# Altium footprint library WL-SWTP.PcbLib: 3 footprints
Each footprint in its own frame and in the unit in brackets; x right, y up, seen from the top. Pads: shape width x height; smd on the part's side, far side on the other; paste and mask are expansions set on the pad; w line width, h text height; cw(c..) or ccw(c..) is an arc to the next point about the centre after c.
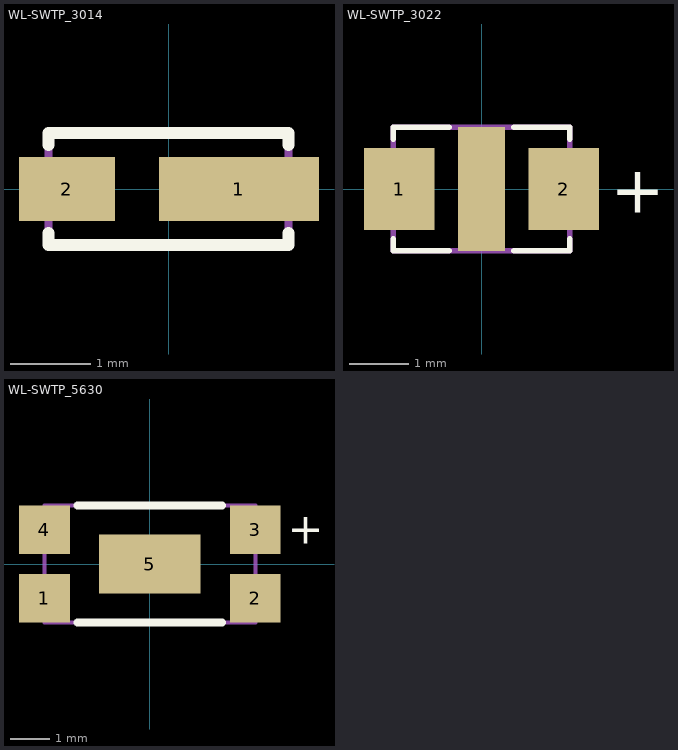
[diagram p0: the footprints below, top view; thin cyan lines are the x and y axes]

## WL-SWTP_3014 [mm] "SMD White Top view PLCC, body 3x1.4"
height 0.8
pads (2):
  rect 2x0.8 smd: 1(0.88,0)
  rect 1.2x0.8 smd: 2(-1.27,0)
Top Overlay:
  lines w0.15: -1.5,-0.55 -1.5,-0.7 1.5,-0.7 1.5,-0.55 ; -1.5,0.55 -1.5,0.7 1.5,0.7 1.5,0.55
Mechanical 13:
  lines w0.1: -1.5,-0.7 1.5,-0.7 1.5,0.7 -1.5,0.7 -1.5,-0.7
3D body "WL-SWTP-158301xxx.stp": height 0.85, standoff 0.05, extent -1.5,-0.7 1.5,0.7

## WL-SWTP_3022 [mm] "SMD White Top view PLCC, body 3x2.1"
height 0.8
pads (3):
  rect 1.2x1.4 smd: 1(-1.4,0) 2(1.4,0)
  rect 0.8x2.1 smd: ""(0,0)
Top Overlay:
  lines w0.1: -1.5,-0.85 -1.5,-1.05 -0.55,-1.05 ; -1.5,0.85 -1.5,1.05 -0.55,1.05 ; 0.55,-1.05 1.5,-1.05 1.5,-0.85 ; 0.55,1.05 1.5,1.05 1.5,0.85
  text "+" at 2.2,-0.4 h0.8
Mechanical 13:
  lines w0.1: -1.5,-1.05 -1.5,1.05 1.5,1.05 1.5,-1.05 -1.5,-1.05
3D body "WL-SWTP_158302xxx.stp": height 0.82, standoff 0.02, extent -1.5,-1.05 1.5,1.05

## WL-SWTP_5630 [mm] "SMD White Top view PLCC, body 5.4x3.0"
height 0.9
pads (5):
  rect 1.3x1.25 smd: 1(-2.7,-0.875) 2(2.7,-0.875) 3(2.7,0.875) 4(-2.7,0.875)
  rect 2.6x1.5 smd: 5(0,0)
Top Overlay:
  lines w0.2: -1.85,-1.5 1.85,-1.5 ; -1.85,1.5 1.85,1.5
  text "+" at 3.53,0.52 h0.8
Mechanical 13:
  lines w0.1: -2.7,-1.5 -2.7,1.5 2.7,1.5 2.7,-1.5 -2.7,-1.5
3D body "WL-SWTP_158563xxx.stp": height 0.92, standoff 0.02, extent -2.85,-1.5 2.85,1.5